# Altium integrated library REF192GRUZ.IntLib: 1 symbol
Pins are listed as number, name and electrical type; pins without a type are passive.

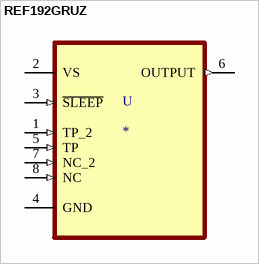
[diagram p0: symbol REF192GRUZ]

## REF192GRUZ
designator U
Series Voltage Reference IC Â±0.4% 8-TSSOP; MF: Analog Devices; MP: REF192GRUZ; Price: None; Value: *; Package: TSSOP-8 Analog Devices; SnapEDA_Link: https://www.snapeda.com/parts/REF192GRUZ/Analog%20Devices%20Inc./view-part/281738/?ref=snap; Availability: Unavailable; DigiKey-Purchase-URL: https://snapeda.com/shop?store=DigiKey&id=281738
footprint SOP65P640X120-8N
pins: 1 TP_2 (in), 2 VS (power), 3 ~{SLEEP} (in), 4 GND, 5 TP (in), 6 OUTPUT (out), 7 NC_2 (in), 8 NC (in)